# Altium integrated library Pedals.IntLib: 52 symbols
Pins are listed as number, name and electrical type; pins without a type are passive.

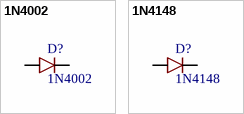
[diagram p0: symbols 1N4002 to 1N4148]

## 1N4002
designator D?
footprint DO35_2
footprint DO41_2
pins: A, C

## 1N4148
designator D?
pins: A, C


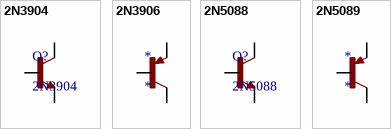
[diagram p1: symbols 2N3904 to 2N5089]

## 2N3904
designator Q?
footprint TO92
pins: 1 C, 2 B, 3 E

## 2N3906
designator *
footprint TO92
pins: 1 C, 2 B, 3 E

## 2N5088
designator Q?
footprint TO92
pins: 1 C, 2 B, 3 E

## 2N5089
designator *
footprint TO92
pins: 1 C, 2 B, 3 E


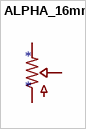
[diagram p2: symbol ALPHA_16mm]

## ALPHA_16mm
designator *
footprint ALPHA_16mm
pins: 1, 2, 3


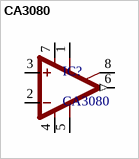
[diagram p3: symbol CA3080]

## CA3080
designator IC?
footprint DIP8
pins: 1 ON1, 2 -IN, 3 +IN, 4 V- (power), 5 OPT, 6 OUT (out), 7 V+ (power), 8 ON2


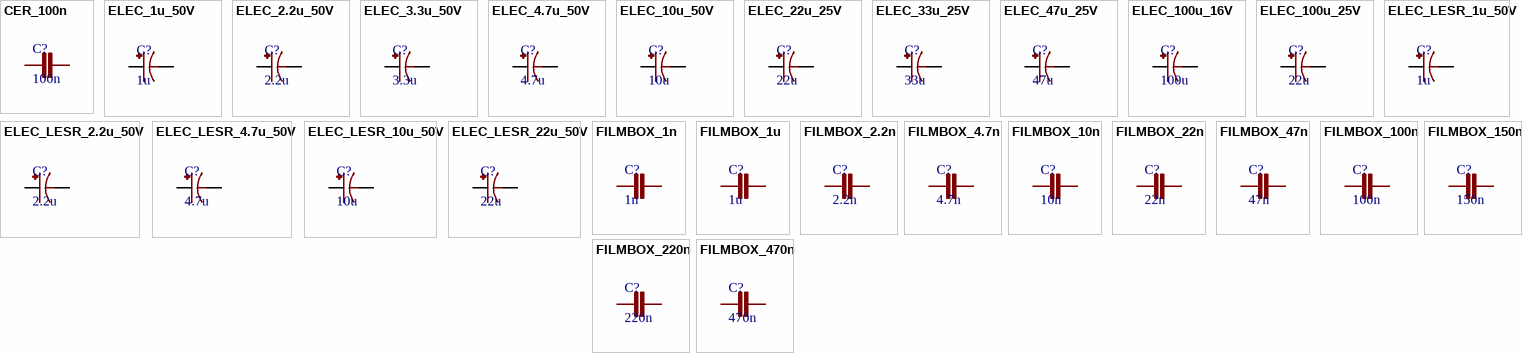
[diagram p4: symbols CER_100n to FILMBOX_470n]

## CER_100n
designator C?, comment 100n
pins: 1, 2

## ELEC_1u_50V
designator C?, comment 1u
footprint ELEC_040_020
pins: +, -

## ELEC_2.2u_50V
designator C?, comment 2.2u
footprint ELEC_040_020
pins: +, -

## ELEC_3.3u_50V
designator C?, comment 3.3u
footprint ELEC_040_020
pins: +, -

## ELEC_4.7u_50V
designator C?, comment 4.7u
footprint ELEC_040_020
pins: +, -

## ELEC_10u_50V
designator C?, comment 10u
footprint ELEC_040_020
pins: +, -

## ELEC_22u_25V
designator C?, comment 22u
footprint ELEC_040_020
pins: +, -

## ELEC_33u_25V
designator C?, comment 33u
footprint ELEC_050_020
pins: +, -

## ELEC_47u_25V
designator C?, comment 47u
footprint ELEC_050_020
pins: +, -

## ELEC_100u_16V
designator C?, comment 100u
footprint ELEC_050_020
pins: +, -

## ELEC_100u_25V
designator C?, comment 22u
footprint ELEC_063_025
pins: +, -

## ELEC_LESR_1u_50V
designator C?, comment 1u
footprint ELEC_LESR_040_020
pins: +, -

## ELEC_LESR_2.2u_50V
designator C?, comment 2.2u
footprint ELEC_LESR_050_020
pins: +, -

## ELEC_LESR_4.7u_50V
designator C?, comment 4.7u
footprint ELEC_LESR_050_020
pins: +, -

## ELEC_LESR_10u_50V
designator C?, comment 10u
footprint ELEC_LESR_050_020
pins: +, -

## ELEC_LESR_22u_50V
designator C?, comment 22u
footprint ELEC_LESR_050_020
pins: +, -

## FILMBOX_1n
designator C?, comment 1n
footprint FILMBOX_SMALL
pins: 1, 2

## FILMBOX_1u
designator C?, comment 1u
footprint FILMBOX_BIG
pins: 1, 2

## FILMBOX_2.2n
designator C?, comment 2.2n
footprint FILMBOX_SMALL
pins: 1, 2

## FILMBOX_4.7n
designator C?, comment 4.7n
footprint FILMBOX_SMALL
pins: 1, 2

## FILMBOX_10n
designator C?, comment 10n
footprint FILMBOX_SMALL
pins: 1, 2

## FILMBOX_22n
designator C?, comment 22n
footprint FILMBOX_SMALL
pins: 1, 2

## FILMBOX_47n
designator C?, comment 47n
footprint FILMBOX_SMALL
pins: 1, 2

## FILMBOX_100n
designator C?, comment 100n
footprint FILMBOX_SMALL
pins: 1, 2

## FILMBOX_150n
designator C?, comment 150n
footprint FILMBOX_SMALL
pins: 1, 2

## FILMBOX_220n
designator C?, comment 220n
footprint FILMBOX_SMALL
pins: 1, 2

## FILMBOX_470n
designator C?, comment 470n
footprint FILMBOX_MED
pins: 1, 2


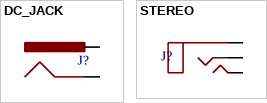
[diagram p5: symbols DC_JACK to STEREO]

## DC_JACK
designator J?
pins: GND, PWR

## STEREO
designator J?
pins: R, S, T


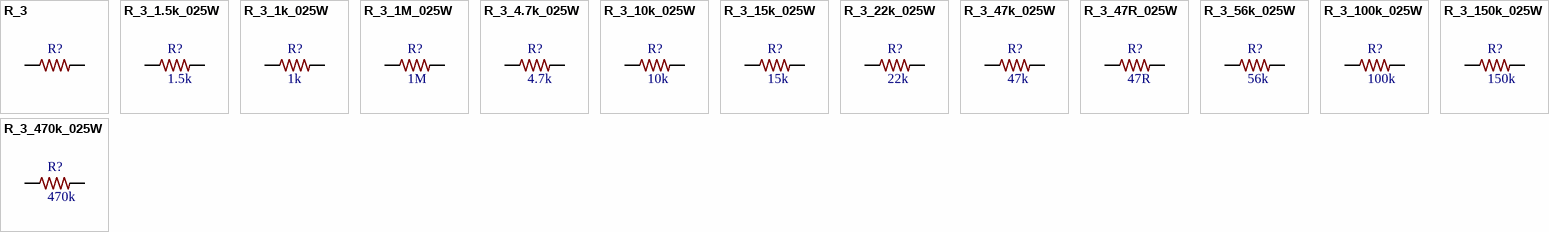
[diagram p6: symbols R_3 to R_3_470k_025W]

## R_3
designator R?
footprint R_3
pins: 1, 2

## R_3_1.5k_025W
designator R?, comment 1.5k
footprint R_3_1.5k_025W
pins: 1, 2

## R_3_1k_025W
designator R?, comment 1k
footprint R_3_1k_025W
pins: 1, 2

## R_3_1M_025W
designator R?, comment 1M
footprint R_3_1M_025W
pins: 1, 2

## R_3_4.7k_025W
designator R?, comment 4.7k
footprint R_3_4.7k_025W
pins: 1, 2

## R_3_10k_025W
designator R?, comment 10k
footprint R_3_10k_025W
pins: 1, 2

## R_3_15k_025W
designator R?, comment 15k
footprint R_3_15k_025W
pins: 1, 2

## R_3_22k_025W
designator R?, comment 22k
footprint R_3_22k_025W
pins: 1, 2

## R_3_47k_025W
designator R?, comment 47k
footprint R_3_47k_025W
pins: 1, 2

## R_3_47R_025W
designator R?, comment 47R
footprint R_3_47R_025W
pins: 1, 2

## R_3_56k_025W
designator R?, comment 56k
footprint R_3_56k_025W
pins: 1, 2

## R_3_100k_025W
designator R?, comment 100k
footprint R_3_100k_025W
pins: 1, 2

## R_3_150k_025W
designator R?, comment 150k
footprint R_3_150k_025W
pins: 1, 2

## R_3_470k_025W
designator R?, comment 470k
footprint R_3_470k_025W
pins: 1, 2


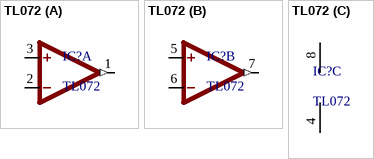
[diagram p7: symbol TL072]

## TL072
designator IC?
footprint DIL8
part A pins: 1 OUT (out), 2 -IN, 3 +IN
part B pins: 5 +IN, 6 -IN, 7 OUT (out)
part C pins: 4 V- (power), 8 V+ (power)